# Altium schematic symbol library ADC081S021.Schlib: 1 symbol
Pins are listed as number, name and electrical type; pins without a type are passive.

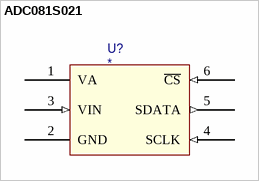
[diagram p0: symbol ADC081S021]

## ADC081S021
designator U?
pins: 1 VA, 2 GND, 3 VIN (in), 4 SCLK (in), 5 SDATA (out), 6 ~{CS} (in)